# Altium schematic symbol library AS5048A-HTSP-500.SchLib: 1 symbol
Pins are listed as number, name and electrical type; pins without a type are passive.

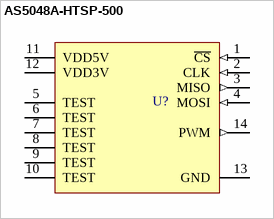
[diagram p0: symbol AS5048A-HTSP-500]

## AS5048A-HTSP-500
designator U?
=Description
pins: 1 ~{CS} (in), 2 CLK (in), 3 MISO (out), 4 MOSI (in), 5 TEST, 6 TEST, 7 TEST, 8 TEST, 9 TEST, 10 TEST, 11 VDD5V (power), 12 VDD3V (power), 13 GND (power), 14 PWM (out)